# EAGLE library part TMP100 (library OSSI)
TMP100 Digital Temerature Sensor with I2C Interface from Texas Instruments
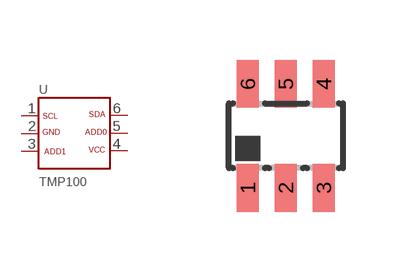
[diagram p32: symbol with the pads of SOT23-6DBV; footprint SOT23-6DBV]

Designator prefix U

## TMP100  [SOT23-6DBV]
1  1
2  2
3  3
4  4
5  5
6  6

## Footprint SOT23-6DBV (pad centres in mm)
SOT23-6DBV
smd 0.55 x 1.2: 1 -0.95,-1.3; 2 0,-1.3; 3 0.95,-1.3; 4 0.95,1.3; 5 0,1.3; 6 -0.95,1.3